# Altium footprint library Buck.PcbLib: 58 footprints (part 1 of 4)
Each footprint in its own frame and in the unit in brackets; x right, y up, seen from the top. Pads: shape width x height; smd on the part's side, far side on the other; paste and mask are expansions set on the pad; w line width, h text height; cw(c..) or ccw(c..) is an arc to the next point about the centre after c.
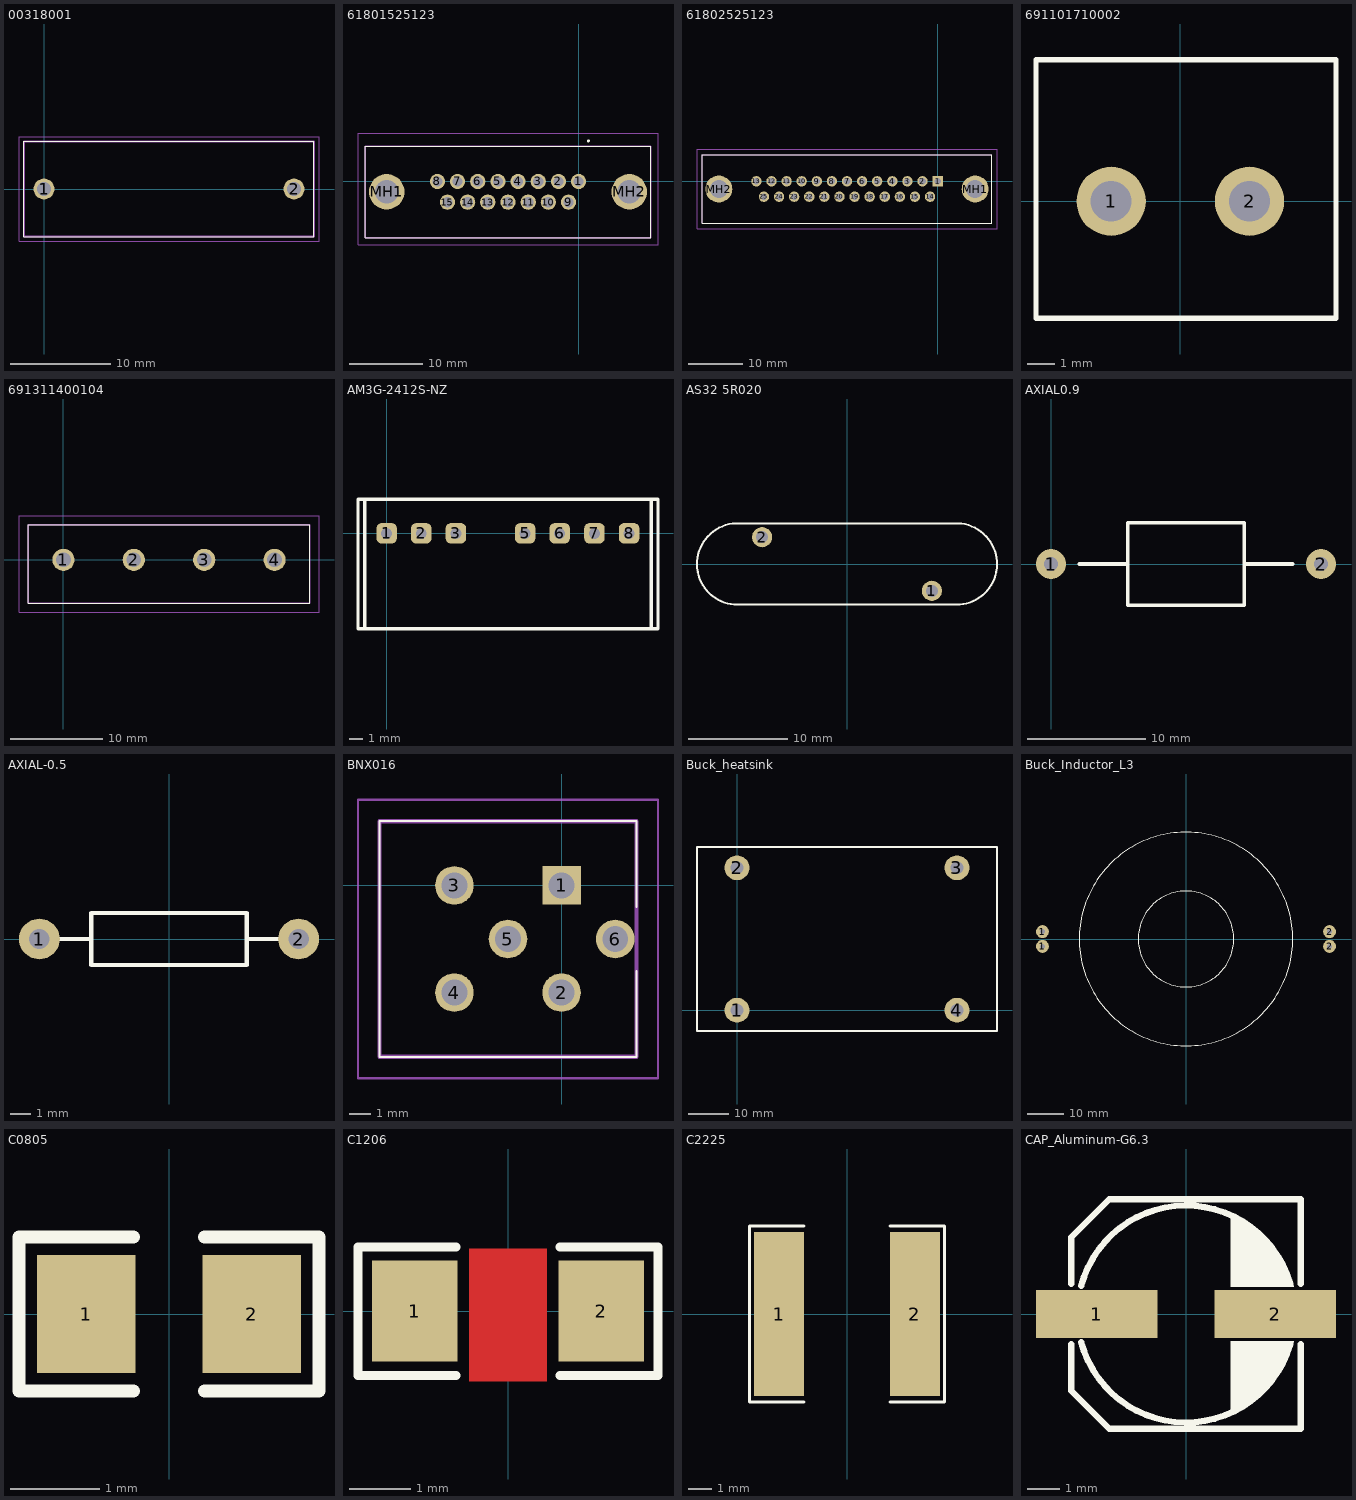
[diagram p0: the footprints below, top view; thin cyan lines are the x and y axes]

## 00318001 [mm]
pads (2):
  round 2.1 hole 1.4: 1(0,0) 2(25,0)
Top Overlay:
  lines w0.1: -2,-4.75 27,-4.75 27,4.75 -2,4.75 -2,-4.75
Mechanical 15:
  lines w0.2: -2,-4.75 27,-4.75 27,4.75 -2,4.75 -2,-4.75
Mechanical 20:
  lines w0.1: -2.5,-5.25 27.5,-5.25 27.5,5.25 -2.5,5.25 -2.5,-5.25
3D body "0031.8001.stp": height 16.1, standoff -5, extent -2,-4.75 27,4.75

## 61801525123 [mm]
pads (17):
  round 2.1 hole 1.4: 1(0,0) 2(-2.77,0) 3(-5.54,0) 4(-8.31,0) 5(-11.08,0) 6(-13.85,0) 7(-16.62,0) 8(-19.39,0) 9(-1.385,-2.84) 10(-4.155,-2.84) 11(-6.925,-2.84) 12(-9.695,-2.84) 13(-12.465,-2.84) 14(-15.235,-2.84) 15(-18.005,-2.84)
  round 4.875 hole 3.25: MH1(-26.355,-1.42) MH2(6.965,-1.42)
Top Overlay:
  lines w0.1: -29.295,-7.695 -29.295,4.855 9.905,4.855 9.905,-7.695 -29.295,-7.695
  lines w0.3: 1.305,5.58 cw(c1.355,5.58) 1.405,5.58 cw(c1.355,5.58) 1.305,5.58
Mechanical 15:
  lines w0.2: -29.295,-7.695 -29.295,4.855 9.905,4.855 9.905,-7.695 -29.295,-7.695
Mechanical 20:
  lines w0.1: -30.295,-8.695 -30.295,6.63 10.905,6.63 10.905,-8.695 -30.295,-8.695
3D body "61801525123.stp": height 12.35, standoff -5, extent -29.295,-7.695 9.905,4.855

## 61802525123 [mm]
pads (27):
  rect 1.9x1.9 hole 1.2: 1(0,0)
  round 1.9 hole 1.2: 2(-2.77,0) 3(-5.54,0) 4(-8.31,0) 5(-11.08,0) 6(-13.85,0) 7(-16.62,0) 8(-19.39,0) 9(-22.16,0) 10(-24.93,0) 11(-27.7,0) 12(-30.47,0) 13(-33.24,0) 14(-1.385,-2.84) 15(-4.155,-2.84) 16(-6.925,-2.84) 17(-9.695,-2.84) 18(-12.465,-2.84) 19(-15.235,-2.84) 20(-18.005,-2.84) 21(-20.775,-2.84) 22(-23.545,-2.84) 23(-26.315,-2.84) 24(-29.085,-2.84) 25(-31.855,-2.84)
  round 4.95 hole 3.3: MH1(6.9,-1.42) MH2(-40.14,-1.42)
Top Overlay:
  lines w0.1: -43.14,-7.67 -43.14,4.83 9.9,4.83 9.9,-7.67 -43.14,-7.67
Mechanical 15:
  lines w0.2: -43.14,-7.67 -43.14,4.83 9.9,4.83 9.9,-7.67 -43.14,-7.67
Mechanical 20:
  lines w0.1: -44.14,-8.67 -44.14,5.83 10.9,5.83 10.9,-8.67 -44.14,-8.67
3D body "61802525123.stp": height 11.15, standoff -5, extent -43.14,-7.67 9.9,4.83

## 691101710002 [mm]
height 0.6
pads (2):
  round 2.54 hole 1.5 mask+0.15: 1(-2.54,0) 2(2.54,0)
Top Overlay:
  lines w0.2: -5.3,-4.3 -5.3,-2.887 -5.3,2.701 -5.3,5.2 5.715,5.2 5.715,-4.3 -5.3,-4.3
3D body "User Library-Klemmnik 300-021-12.STEP": height 12.5, standoff -4.5, extent -5,-4.051 5.5,4.949

## 691311400104 [mm]
pads (4):
  round 2.4 hole 1.6: 1(0,0) 2(7.62,0) 3(15.24,0) 4(22.86,0)
Top Overlay:
  lines w0.1: -3.81,-4.7 -3.81,3.8 26.67,3.8 26.67,-4.7 -3.81,-4.7
Mechanical 15:
  lines w0.2: -3.81,-4.7 -3.81,3.8 26.67,3.8 26.67,-4.7 -3.81,-4.7
Mechanical 20:
  lines w0.1: -4.81,-5.7 -4.81,4.8 27.67,4.8 27.67,-5.7 -4.81,-5.7
3D body "691311400104.stp": height 12.25, standoff -5, extent -3.81,-4.7 26.67,3.8

## AM3G-2412S-NZ [mm]
pads (7):
  rrect50% 1.5x1.5 hole 0.8: 1(0,0) 2(2.54,0) 3(5.08,0) 5(10.16,0) 6(12.69,0) 7(15.24,0) 8(17.78,0)
Top Overlay:
  lines w0.254: -1.6,-7 -1.6,2.5 ; 19.4,-7 19.4,2.5 ; -2.1,-7 -2.1,2.5 19.9,2.5 19.9,-7 -2.1,-7

## AS32 5R020 [mm]
pads (2):
  round 2.032 hole 1.2: 1(8.55,-2.7) 2(-8.55,2.7)
Top Overlay:
  lines w0.203: -11.18,-4.1 11.18,-4.1 ; -11.18,4.1 11.18,4.1 ; -11.171,4.096 ccw(c-11,0) -11,-4.1 ; 11,-4.1 ccw(c11,0) 11.171,4.096

## AXIAL0.9 [mil]
pads (2):
  round 100 hole 48: 1(0,0) 2(900,0)
Top Overlay:
  lines w12: 95,0 255.91,0 ; 644.09,0 805,0 ; 255.91,-137.8 644.09,-137.8 644.09,137.8 255.91,137.8 255.91,-137.8

## AXIAL-0.5 [mm] "Axial Device, Thru-Hole; 2 Leads; 0.5 in Pin Spacing"
height 2.54
pads (2):
  round 2 hole 1: 1(-6.35,0) 2(6.35,0)
Top Overlay:
  lines w0.2: -5.334,0 -3.81,0 ; 3.81,0 5.334,0 ; -3.81,-1.27 -3.81,1.27 3.81,1.27 3.81,-1.27 -3.81,-1.27

## BNX016 [mm]
pads (6):
  rect 1.8x1.8 hole 1.2: 1(0,0)
  round 1.8 hole 1.2: 2(0,-5) 3(-5,0) 4(-5,-5) 5(-2.5,-2.5) 6(2.5,-2.5)
Top Overlay:
  lines w0.1: 3.5,-4 3.5,-8 -8.5,-8 -8.5,3 3.5,3 3.5,-1
Mechanical 15:
  lines w0.2: -8.5,-8 3.5,-8 3.5,3 -8.5,3 -8.5,-8
Mechanical 20:
  lines w0.1: -9.5,-9 4.5,-9 4.5,4 -9.5,4 -9.5,-9
3D body "BNX016-01.stp": height 8, standoff -4.3, extent -8.444,-8.04 3.556,2.96

## Buck_heatsink [mm]
pads (4):
  round 6.2 hole 3.2: 1(0,0) 2(0,35.6) 3(55,35.6) 4(55,0)
Top Overlay:
  lines w0.5: -10,-5.2 -10,40.8 65,40.8 65,-5.2 -10,-5.2

## Buck_Inductor_L3 [mm]
pads (4):
  round 3.5 hole 1.3: 1(-39,-2) 1(-39,2) 2(39,-2) 2(39,2)
Top Overlay:
  circle w0.254: c0,0 r13
  circle w0.254: c0,0 r29

## C0805 [mm] "0805"
pads (2):
  rect 1.1x1.32 smd: 1(-0.925,0) 2(0.925,0)
Top Overlay:
  lines w0.15: -0.4,-0.86 -1.675,-0.86 -1.675,0.86 -0.4,0.86 ; 0.4,-0.86 1.675,-0.86 1.675,0.86 0.4,0.86
3D body "User Library-0805 SMD Capacitor.STEP": height 0.78, standoff 0, extent -1,-0.625 1,0.625

## C1206 [mm] "1206"
pads (2):
  rect 1.4x1.65 smd: 1(-1.524,0) 2(1.524,0)
Top Layer:
  pour cut-out: 0.635,1.016 0.635,-1.143 -0.635,-1.144 -0.635,1.016
Top Overlay:
  lines w0.15: -0.85,-1.05 -2.45,-1.05 -2.45,1.05 -0.85,1.05 ; 0.85,-1.05 2.45,-1.05 2.45,1.05 0.85,1.05
3D body "User Library-cap_1206-1.STEP": height 1.6, standoff 0, extent -1.6,-0.8 1.6,0.8

## C2225 [mm]
pads (2):
  rect 2.1x6.9 smd: 1(-2.85,0) 2(2.85,0)
Top Overlay:
  lines w0.127: -1.8,-3.7 -4.1,-3.7 -4.1,3.7 -1.8,3.7 ; 1.8,-3.7 4.1,-3.7 4.1,3.7 1.8,3.7

## CAP_Aluminum-G6.3 [mm] "Footprint For Panasonic Co."
pads (2):
  rect 3.8x1.5 smd mask+0.1: 1(-2.8,0) 2(2.8,0)
Top Overlay:
  region: 3.38,-0.85 3.35,-1 2.11,-2.78 1.4,-3.11 1.4,-0.85
  region: 3.38,0.85 3.35,1 2.11,2.78 1.4,3.11 1.4,0.85
  lines w0.2: -3.6,-0.95 -3.6,-2.4 -2.4,-3.6 3.6,-3.6 3.6,-0.95 ; -3.6,0.95 -3.6,2.4 -2.4,3.6 3.6,3.6 3.6,0.95 ; -3.284,-0.88 ccw(c0,0) 3.267,-0.941 ; -3.284,0.88 cw(c0,0) 3.267,0.941
3D body "ea-D.STEP": height 5.41, standoff -0.01, extent -3.514,-3.259 3.486,3.341